# EAGLE library part TDA7240A (library Audio-Power-amlifier V.2.0)
The TDA7240A is a 20W bridge audio amplifier IC designed specially for car radio applications. Thanks to the low external part count and compact Heptawatt 7-pin power package the TDA7240A occupies little space on the printed circuit board.
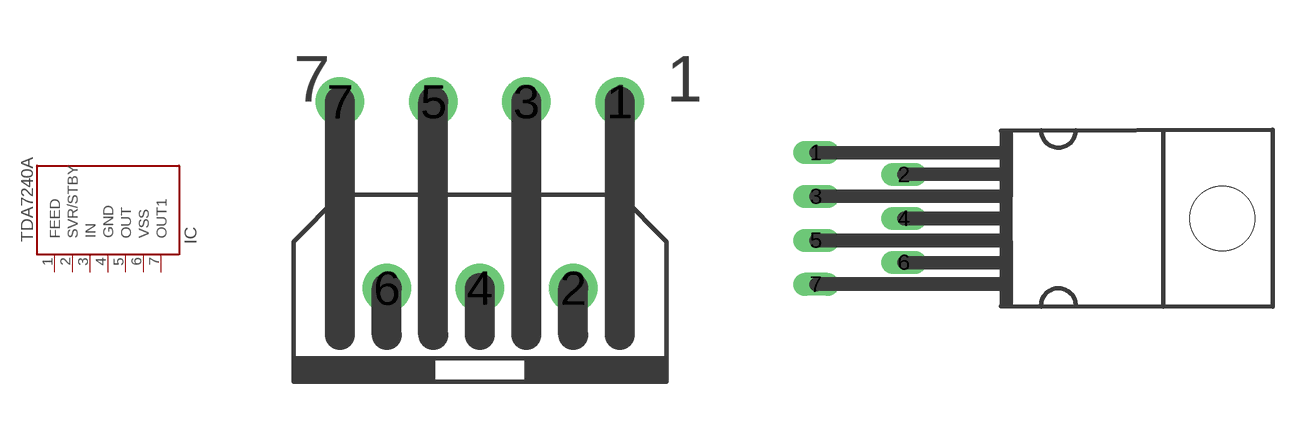
[diagram p212: symbol with the pads of HEPTAWATT; footprints HEPTAWATT, HEPTAW.H]

Designator prefix IC

## TDA7240ATDA7240AV  [HEPTAWATT]
1  FEED
2  SVR/STBY
3  IN
4  GND  pwr
5  OUT  out
6  VSS  pwr
7  OUT1  out

## TDA7240ATDA7240AH  [HEPTAW.H]
Pads as for HEPTAWATT

## Footprint HEPTAWATT (pad centres in mm)
HEPTAWATT 7
drill 0.813: 1 3.81,5.08; 2 2.54,0; 3 1.27,5.08; 4 0,0; 5 -1.27,5.08; 6 -2.54,0; 7 -3.81,5.08

## Footprint HEPTAW.H (pad centres in mm)
drill 0.813 long: 1 -11.43,3.81; 2 -6.35,2.54; 3 -11.43,1.27; 4 -6.35,0; 5 -11.43,-1.27; 6 -6.35,-2.54; 7 -11.43,-3.81
hole 3.75 at 12.05,0